# Altium footprint library 430450612.PcbLib: 1 footprints
Each footprint in its own frame and in the unit in brackets; x right, y up, seen from the top. Pads: shape width x height; smd on the part's side, far side on the other; paste and mask are expansions set on the pad; w line width, h text height; cw(c..) or ccw(c..) is an arc to the next point about the centre after c.
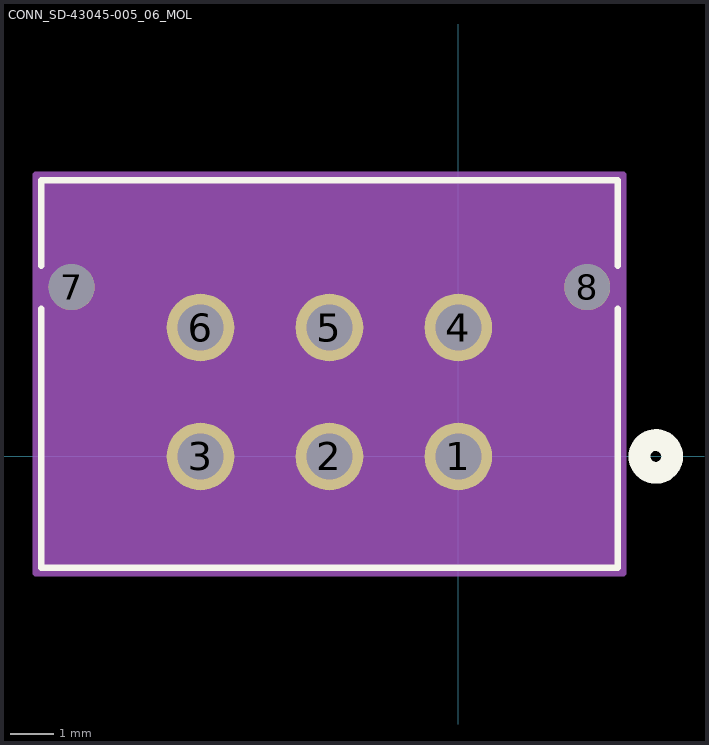
[diagram p0: the footprint, top view; thin cyan lines are the x and y axes]

## CONN_SD-43045-005_06_MOL [mil]
pads (8):
  round 62 hole 42 paste-31 mask+0: 1(0,0) 2(-118.11,0) 3(-236.22,0) 4(0,118.11) 5(-118.11,118.11) 6(-236.22,118.11)
  round 42 hole 42 unplated paste+0 mask+0: 7(-354.33,155.12) 8(118.11,155.12)
Top Overlay:
  circle w20: c180.89,0 r15
  lines w6: -382.11,135.34 -382.11,-101.97 145.89,-101.97 145.89,135.34 ; -382.11,174.89 -382.11,253.03 145.89,253.03 145.89,174.89
  text ".Designator" at -255.61,34.06 h50
Bottom Overlay:
  circle w20: c180.89,0 r15
Mechanical 13:
  circle w20: c0,0 r15
  lines w1: -377.11,-96.97 140.89,-96.97 140.89,248.03 -377.11,248.03 -377.11,-96.97
  text ".Designator" at -255.61,34.06 h50
Mechanical 15:
  region: 150.89,258.03 -387.11,258.03 -387.11,-106.97 150.89,-106.97
  lines w6: -387.11,-106.97 -387.11,258.03 150.89,258.03 150.89,-106.97 -387.11,-106.97